# EAGLE library part TPS25921AD (library 2025-09-25_09-55-04_Library)
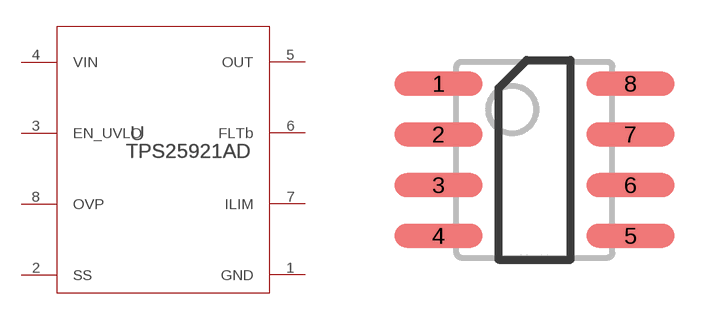
[diagram p0: symbol with the pads of D0008A; footprint D0008A]

Designator prefix U

## TPS25921ADD0008A (Copyright: Copyright (C) 2025 Ultra Librarian. All rights reserved.; Datasheet: https://www.ti.com/lit/gpn/tps25921a; Description: 4.5-V to 18-V, 90mΩ, 0.4-1.6A eFuse with auto retry fault response 8-SOIC -40 to 85; Manufacturer_Name: Texas Instruments; Manufacturer_Part_Number: TPS25921AD; RefDes: RefDes; TYPE: TYPE)  [D0008A]
1  GND  pwr
2  SS  in
3  EN_UVLO  in
4  VIN  pwr
5  OUT  out
6  FLTb  out
7  ILIM  in
8  OVP  in

## Footprint D0008A (pad centres in mm)
smd 2.2 x 0.6: 1 -2.4,1.905; 2 -2.4,0.635; 3 -2.4,-0.635; 4 -2.4,-1.905; 5 2.4,-1.905; 6 2.4,-0.635; 7 2.4,0.635; 8 2.4,1.905